# Altium footprint library 282837-2.PcbLib: 1 footprints
Each footprint in its own frame and in the unit in brackets; x right, y up, seen from the top. Pads: shape width x height; smd on the part's side, far side on the other; paste and mask are expansions set on the pad; w line width, h text height; cw(c..) or ccw(c..) is an arc to the next point about the centre after c.
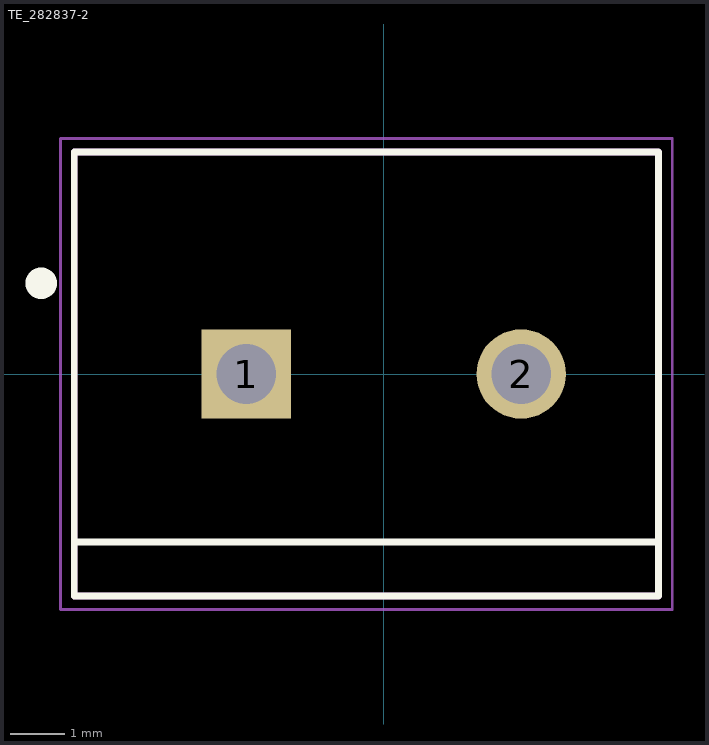
[diagram p0: the footprint, top view; thin cyan lines are the x and y axes]

## TE_282837-2 [mm]
pads (2):
  rect 1.65x1.65 hole 1.1: 1(-2.54,0)
  round 1.65 hole 1.1: 2(2.54,0)
Top Overlay:
  circle w0.381: c-6.325,1.676 r0.1
  lines w0.127: -5.715,-3.1 5.08,-3.1 ; 5.08,-3.1 5.08,4.1 -5.715,4.1 -5.715,-4.1 -5.08,-4.1 5.08,-4.1 5.08,-3.1
Top Designator:
  text ".Designator" at 6.987,-0.508 h1.52
Mechanical 13:
  circle w0.2: c-6.299,1.676 r0.1
  lines w0.127: -5.715,-4.1 5.08,-4.1 5.08,4.1 -5.715,4.1 -5.715,-4.1
Mechanical 15:
  lines w0.05: -5.969,-4.35 5.33,-4.35 5.33,4.35 -5.969,4.35 -5.969,-4.35
3D body "step_temp.STEP": height 10, standoff -3.5, extent -5.68,-4.1 5.08,4.1